# Altium schematic symbol library U_SN74LVC2G14.Schlib: 1 symbol
Pins are listed as number, name and electrical type; pins without a type are passive.

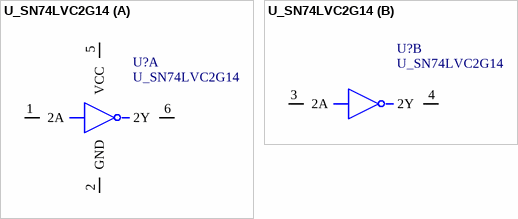
[diagram p0: symbol U_SN74LVC2G14]

## U_SN74LVC2G14
designator U?
part A pins: 1 2A, 2 GND (power), 5 VCC (power), 6 2Y
part B pins: 3 2A, 4 2Y